# Altium footprint library RESC_2010.PcbLib: 1 footprints
Each footprint in its own frame and in the unit in brackets; x right, y up, seen from the top. Pads: shape width x height; smd on the part's side, far side on the other; paste and mask are expansions set on the pad; w line width, h text height; cw(c..) or ccw(c..) is an arc to the next point about the centre after c.
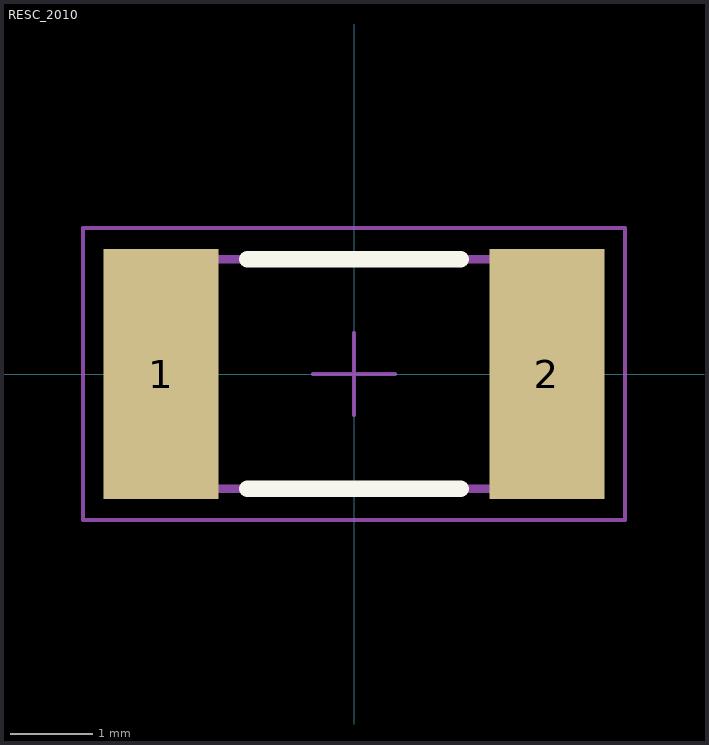
[diagram p0: the footprint, top view; thin cyan lines are the x and y axes]

## RESC_2010 [mm] "RESC_2010"
height 0.889
pads (2):
  rect 1.4x3.05 smd: 1(-2.35,0) 2(2.35,0)
Top Overlay:
  lines w0.2: -1.3,-1.397 1.3,-1.397 ; -1.3,1.397 1.3,1.397
Mechanical 13:
  lines w0.1: -2.667,-1.397 2.667,-1.397 2.667,1.397 -2.667,1.397 -2.667,-1.397
Mechanical 15:
  lines w0.05: -0.5,0 0.5,0 ; 0,-0.5 0,0.5 ; -3.302,-1.778 -3.302,1.778 3.302,1.778 3.302,-1.778 -3.302,-1.778
3D body: height 0.89, standoff 0, extent -2.667,-1.397 2.667,1.397